# Altium integrated library Components - 24.10.19 - 10.58.IntLib: 1 symbol
Pins are listed as number, name and electrical type; pins without a type are passive.

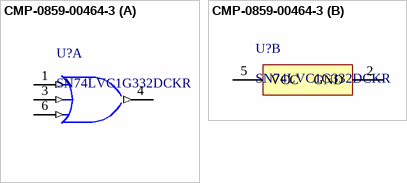
[diagram p0: symbol CMP-0859-00464-3]

## CMP-0859-00464-3
designator U?, comment SN74LVC1G332DCKR
Single 3-Input Positive-OR Gate, DCK0006A, LARGE T&R; Manufacturer: Texas Instruments; VCC(Max)(V): 5.5; Rating: Catalog; Output Drive (IOL/IOH)(Max)(mA): 32/-32; Input Type: CMOS/TTL; tpd @ Nom Voltage(Max)(ns): 17.2,6.2,4.8,3.5; F @ Nom Voltage(Max)(Mhz): 150; Technology Family: LVC; Output Type: CMOS; VCC(Min)(V): 1.65; 3-State Output: No; Logic: True; Sub-Family: OR Gate; Gate Type: OR; Voltage(Nom)(V): 1.8,2.5,3.3,5; Bits(#): 1; ICC @ Nom Voltage(Max)(mA): 0.01; DatasheetVersion: SCES489E; Operating Temperature Range(C): -40 to 125,-40 to 85; PackageReference: DCK0006A; Generic Part Number: SN74LVC1G332; Schmitt Trigger: No
footprint DCK0006A_L (SOT23, 6-Leads, Body 2.15x1.4mm, Pitch 0.65mm, IPC High Density)
footprint DCK0006A_M (SOT23, 6-Leads, Body 2.15x1.4mm, Pitch 0.65mm, IPC Low Density)
footprint DCK0006A_N (SOT23, 6-Leads, Body 2.15x1.4mm, Pitch 0.65mm, IPC Medium Density)
part A pins: 1 A (in), 3 B (in), 4 Y (out), 6 C (in)
part B pins: 2 GND (power), 5 VCC (power)